# EAGLE library part 50223-008 (library con-aces-50223-series)
ACES CONNECTORS 50223 SERIES ACES Connecors 50223
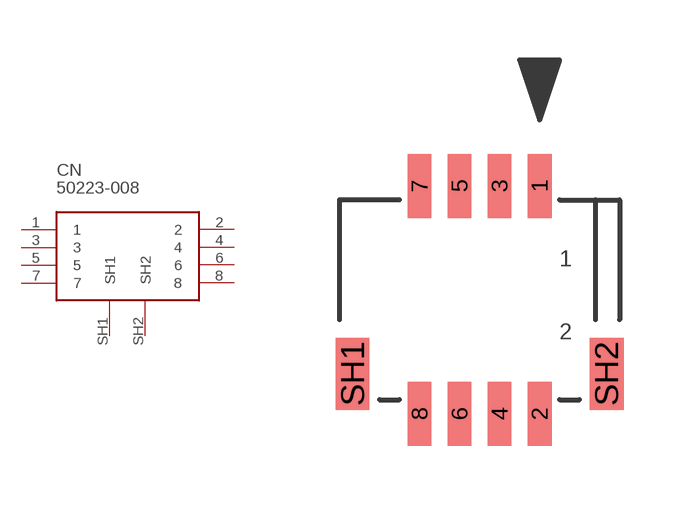
[diagram p0: symbol with the pads of 50223-008; footprint 50223-008]

Designator prefix CN

## 50223-008  [50223-008]
1  1
2  2
3  3
4  4
5  5
6  6
7  7
8  8
SH1  SH1
SH2  SH2

## Footprint 50223-008 (pad centres in mm)
smd 0.6 x 1.6: 1 1.5,2.85; 2 1.5,-2.85; 3 0.5,2.85; 4 0.5,-2.85; 5 -0.5,2.85; 6 -0.5,-2.85; 7 -1.5,2.85; 8 -1.5,-2.85
smd 0.85 x 1.8: SH1 -3.175,-1.85; SH2 3.175,-1.85